# Altium schematic symbol library CRCW0603390RFKEA.SchLib: 1 symbol
Pins are listed as number, name and electrical type; pins without a type are passive.

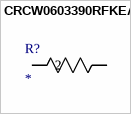
[diagram p0: symbol CRCW0603390RFKEA]

## CRCW0603390RFKEA
designator R?
No Description Available; Mfr_Name: Vishay
footprint RES_CRCW_0603
pins: 1, 2